# Altium schematic symbol library HMC625BLP5E.SchLib: 1 symbol
Pins are listed as number, name and electrical type; pins without a type are passive.

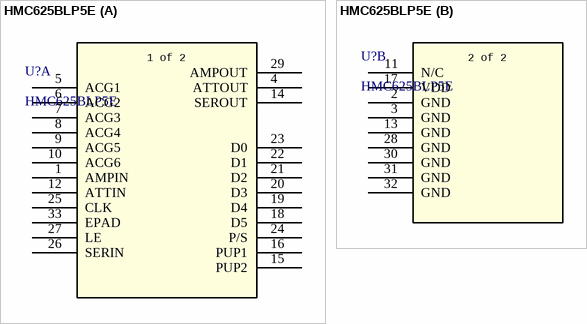
[diagram p0: symbol HMC625BLP5E]

## HMC625BLP5E
designator U?
0.5 dB LSB GaAs MMIC 6-Bit Digital Variable Gain Amplifier, DC - 5 GHz; Manufacturer_Name: Analog Devices Inc; Copyright: Copyright (C) 2026 Ultra Librarian. All rights reserved.; Manufacturer_Part_Number: HMC625BLP5E; Datasheet: https://www.analog.com/media/en/technical-documentation/data-sheets/HMC625B.pdf; RefDes: RefDes; Type: Type
footprint HMC625BLP5E_ADI
part A pins: 1 AMPIN, 4 ATTOUT, 5 ACG1, 6 ACG2, 7 ACG3, 8 ACG4, 9 ACG5, 10 ACG6, 12 ATTIN, 14 SEROUT, 15 PUP2, 16 PUP1, 18 D5, 19 D4, 20 D3, 21 D2, 22 D1, 23 D0, 24 P/S, 25 CLK, 26 SERIN, 27 LE, 29 AMPOUT, 33 EPAD
part B pins: 2 GND, 3 GND, 11 N/C, 13 GND, 17 VDD, 28 GND, 30 GND, 31 GND, 32 GND
part A text: 1 of 2
part B text: 2 of 2